# EAGLE library part XFMR_HFFIL_EFD (library wheat)
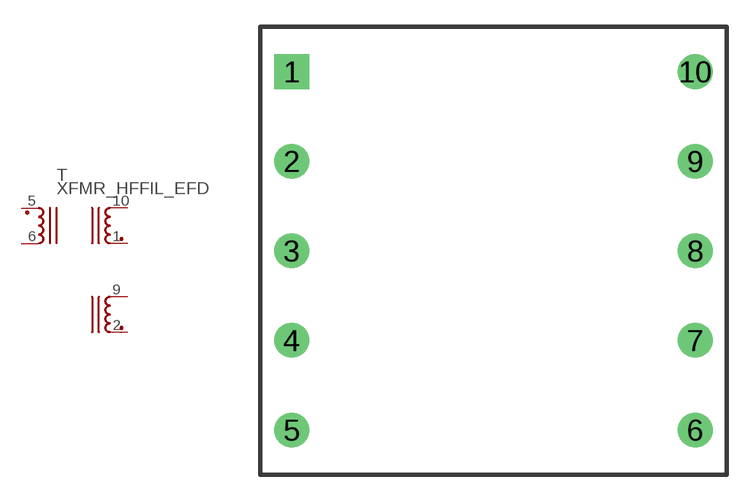
[diagram p140: symbol with the pads of EFD25; footprint EFD25]

Designator prefix T

## XFMR_HFFIL_EFD  [EFD25]
1  S11  pas
2  S21  pas
5  P1  pas
6  P2  pas
9  S22  pas
10  S12  pas

## Footprint EFD25 (pad centres in mm)
drill 1.27 pad 1.93 square: 1 -11.25,10
drill 1.27 pad 1.93: 2 -11.25,5; 3 -11.25,0; 4 -11.25,-5; 5 -11.25,-10; 6 11.25,-10; 7 11.25,-5; 8 11.25,0; 9 11.25,5; 10 11.25,10